# EAGLE library part PIC18F458-I/L (library PIC18F458-I_L)
Flash Microcontrollers Check prices <https://pricing.snapeda.com/parts/PIC18F458-I/L/Microchip/view-part?ref=eda>
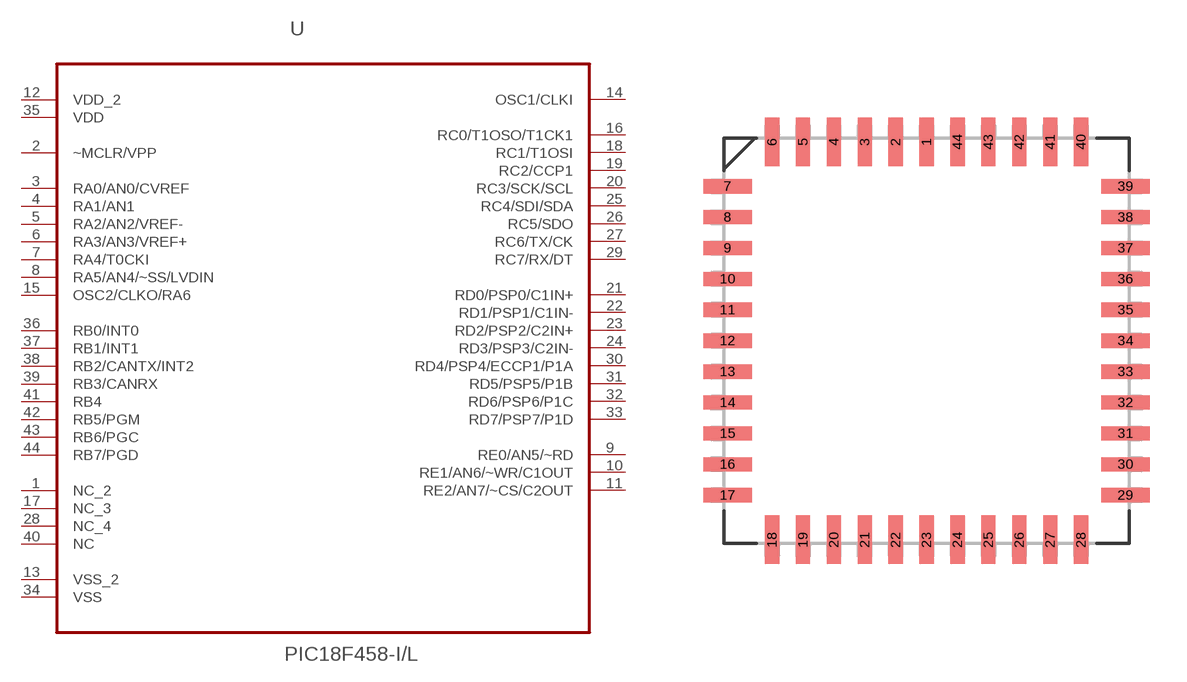
[diagram p0: symbol with the pads of PLCC127P1752X1752X457-44N; footprint PLCC127P1752X1752X457-44N]

Designator prefix -

## PIC18F458-I/L (Availability: Bad; Description: PIC PIC® 18F Microcontroller IC 8-Bit 40MHz 32KB (16K x 16) FLASH 44-PLCC (16.59x16.59); MF: Microchip; MP: PIC18F458-I/L; Package: PLCC-44 Atmel; Price: None; Purchase-URL: https://pricing.snapeda.com/search/part/PIC18F458-I/L/?ref=eda)  [PLCC127P1752X1752X457-44N]
1  NC_2  nc
2  ~MCLR/VPP  pwr
3  RA0/AN0/CVREF
4  RA1/AN1
5  RA2/AN2/VREF-
6  RA3/AN3/VREF+
7  RA4/T0CKI
8  RA5/AN4/~SS/LVDIN
9  RE0/AN5/~RD
10  RE1/AN6/~WR/C1OUT
11  RE2/AN7/~CS/C2OUT
12  VDD_2  pwr
13  VSS_2  pwr
14  OSC1/CLKI
15  OSC2/CLKO/RA6
16  RC0/T1OSO/T1CK1
17  NC_3  nc
18  RC1/T1OSI
19  RC2/CCP1
20  RC3/SCK/SCL
21  RD0/PSP0/C1IN+
22  RD1/PSP1/C1IN-
23  RD2/PSP2/C2IN+
24  RD3/PSP3/C2IN-
25  RC4/SDI/SDA
26  RC5/SDO
27  RC6/TX/CK
28  NC_4  nc
29  RC7/RX/DT
30  RD4/PSP4/ECCP1/P1A
31  RD5/PSP5/P1B
32  RD6/PSP6/P1C
33  RD7/PSP7/P1D
34  VSS  pwr
35  VDD  pwr
36  RB0/INT0
37  RB1/INT1
38  RB2/CANTX/INT2
39  RB3/CANRX
40  NC  nc
41  RB4
42  RB5/PGM
43  RB6/PGC
44  RB7/PGD

## Footprint PLCC127P1752X1752X457-44N (pad centres in mm)
smd 0.584 x 2.007: 1 0,8.179; 2 -1.27,8.179; 3 -2.54,8.179; 4 -3.81,8.179; 5 -5.08,8.179; 6 -6.35,8.179; 18 -6.35,-8.179; 19 -5.08,-8.179; 20 -3.81,-8.179; 21 -2.54,-8.179; 22 -1.27,-8.179; 23 0,-8.179; 24 1.27,-8.179; 25 2.54,-8.179; 26 3.81,-8.179; 27 5.08,-8.179; 28 6.35,-8.179; 40 6.35,8.179; 41 5.08,8.179; 42 3.81,8.179; 43 2.54,8.179; 44 1.27,8.179
smd 2.007 x 0.584: 7 -8.179,6.35; 8 -8.179,5.08; 9 -8.179,3.81; 10 -8.179,2.54; 11 -8.179,1.27; 12 -8.179,0; 13 -8.179,-1.27; 14 -8.179,-2.54; 15 -8.179,-3.81; 16 -8.179,-5.08; 17 -8.179,-6.35; 29 8.179,-6.35; 30 8.179,-5.08; 31 8.179,-3.81; 32 8.179,-2.54; 33 8.179,-1.27; 34 8.179,0; 35 8.179,1.27; 36 8.179,2.54; 37 8.179,3.81; 38 8.179,5.08; 39 8.179,6.35